# Altium footprint library BH9VPC.PcbLib: 1 footprints
Each footprint in its own frame and in the unit in brackets; x right, y up, seen from the top. Pads: shape width x height; smd on the part's side, far side on the other; paste and mask are expansions set on the pad; w line width, h text height; cw(c..) or ccw(c..) is an arc to the next point about the centre after c.
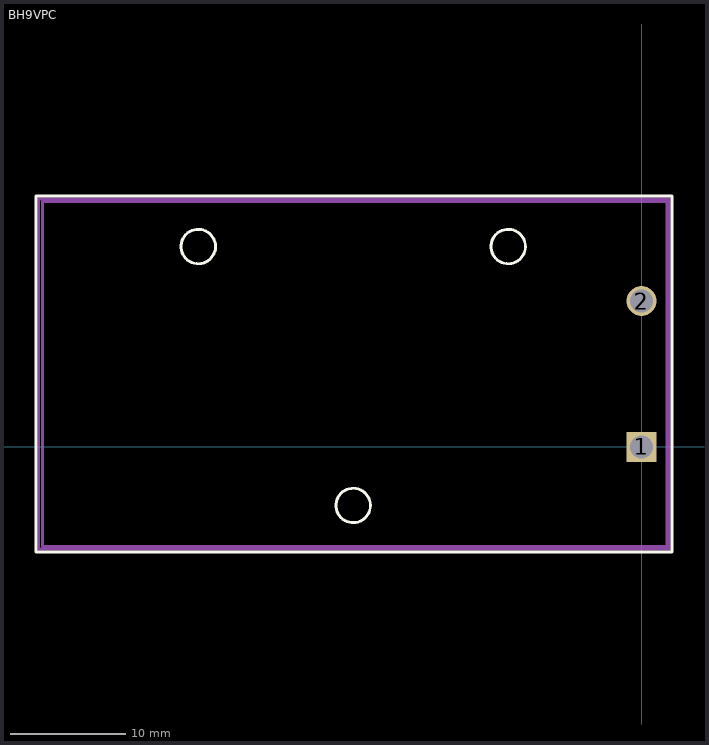
[diagram p0: the footprint, top view; thin cyan lines are the x and y axes]

## BH9VPC [mm]
pads (2):
  rect 2.6x2.6 hole 2: 1(0,0)
  round 2.6 hole 2: 2(0,12.7)
Top Overlay:
  circle w0.254: c-38.57,17.44 r1.5
  circle w0.254: c-25.09,-5.09 r1.5
  circle w0.254: c-11.6,17.44 r1.5
  lines w0.254: -52.705,-9.144 -52.705,21.844 2.667,21.844 2.667,-9.144 -52.705,-9.144
Mechanical 1:
  lines w0.254: -52.12,-8.635 -52.12,21.335 2.22,21.335 2.22,-8.635 -52.12,-8.635
  text ".Designator" at -32.131,6.096 h1.52
Mechanical 15:
  lines w0.254: -52.451,-8.89 -52.451,21.59 2.413,21.59 2.413,-8.89 -52.451,-8.89
3D body: height 17.2, standoff 0, extent -52.12,-8.636 -50.038,21.335
3D body: height 20.62, standoff 0, extent 0,-8.635 2.22,21.336
3D body: height 2.54, standoff 0, extent -52.12,-8.635 2.22,21.335